# Altium footprint library Generic.PcbLib: 30 footprints (part 1 of 2)
Each footprint in its own frame and in the unit in brackets; x right, y up, seen from the top. Pads: shape width x height; smd on the part's side, far side on the other; paste and mask are expansions set on the pad; w line width, h text height; cw(c..) or ccw(c..) is an arc to the next point about the centre after c.
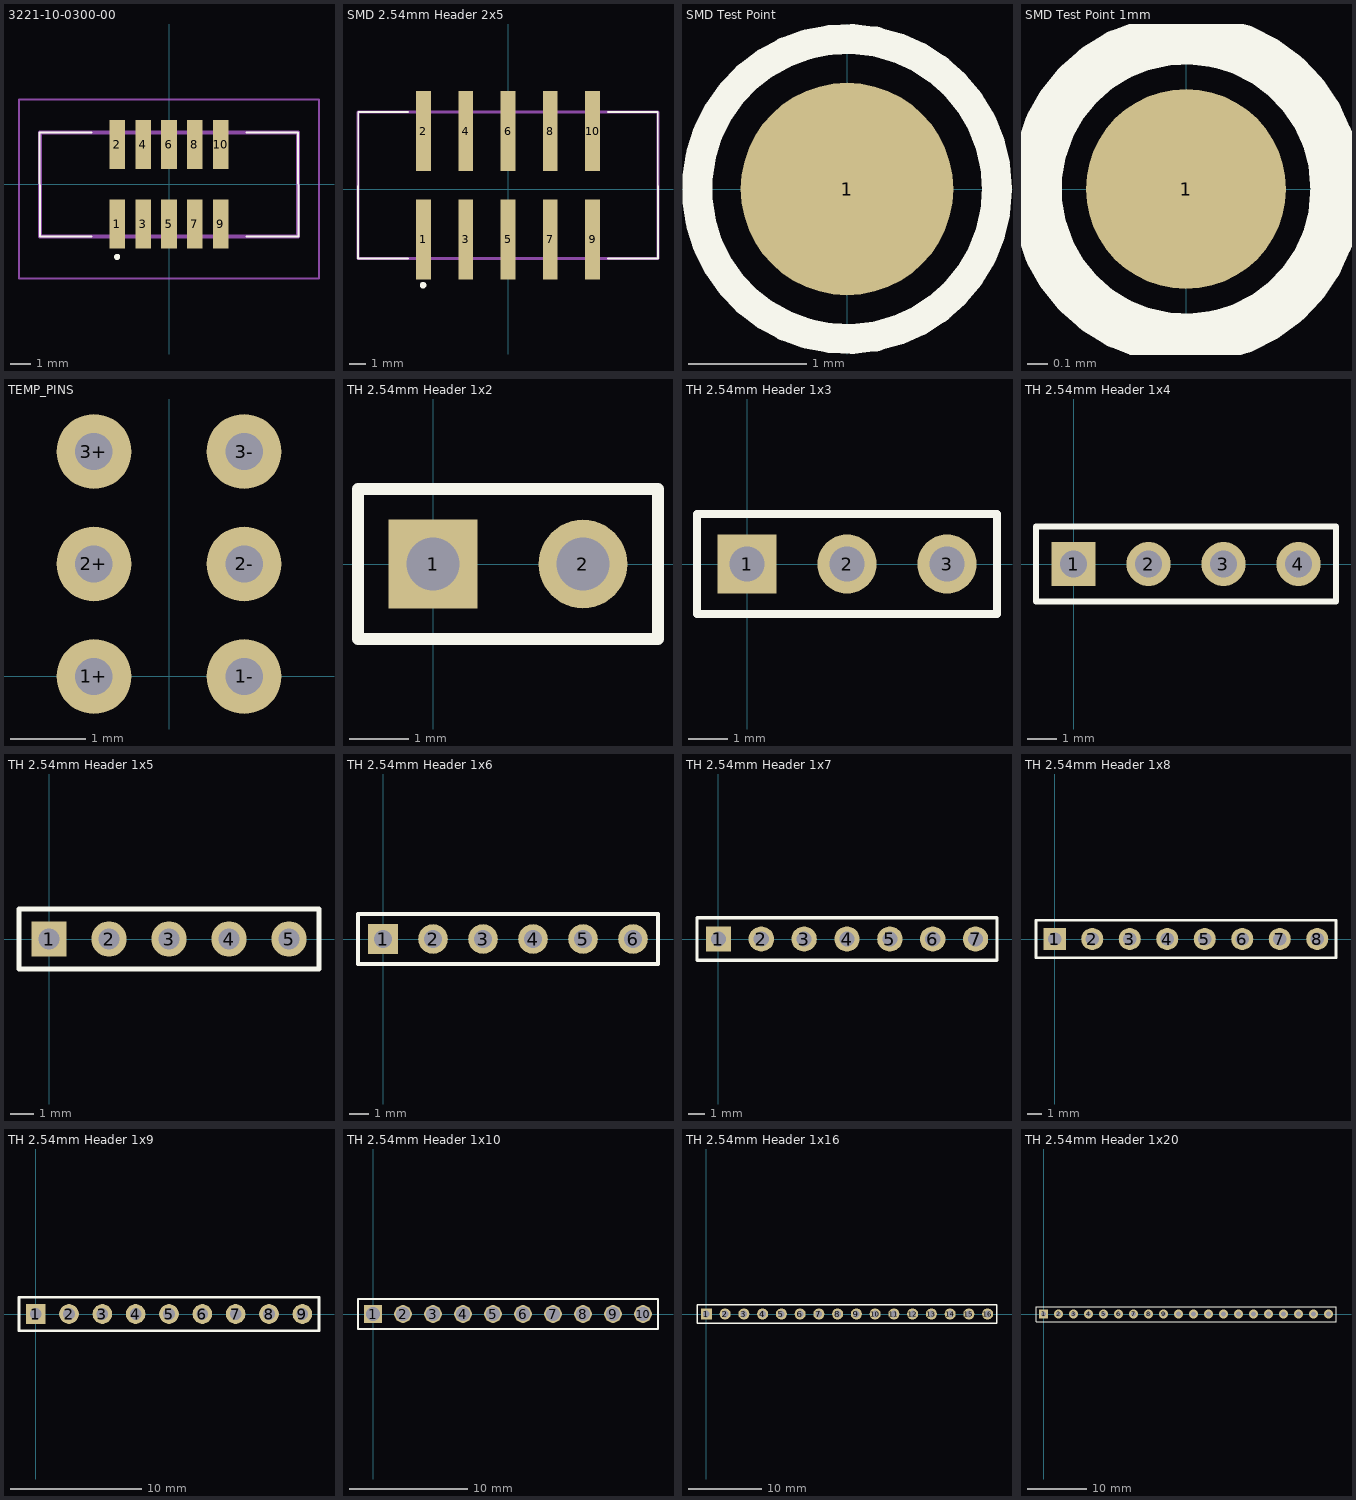
[diagram p0: the footprints below, top view; thin cyan lines are the x and y axes]

## 3221-10-0300-00 [mm]
pads (10):
  rect 0.76x2.4 smd: 1(-2.54,-1.95) 2(-2.54,1.95) 3(-1.27,-1.95) 4(-1.27,1.95) 5(0,-1.95) 6(0,1.95) 7(1.27,-1.95) 8(1.27,1.95) 9(2.54,-1.95) 10(2.54,1.95)
Top Overlay:
  lines w0.1: -3.81,-2.55 -6.325,-2.55 -6.35,2.55 -3.81,2.55 ; 3.81,-2.55 6.35,-2.55 6.325,2.55 3.81,2.55
  lines w0.2: -2.54,-3.6 cw(c-2.54,-3.55) -2.54,-3.5 cw(c-2.54,-3.55) -2.54,-3.6
Mechanical 13:
  lines w0.2: -6.325,-2.55 6.325,-2.55 6.325,2.55 -6.325,2.55 -6.325,-2.55
Mechanical 15:
  lines w0.1: -7.35,-4.6 7.35,-4.6 ; -7.35,-4.6 -7.35,4.15 ; -7.35,-4.6 7.35,-4.6 ; -7.35,-4.6 -7.35,4.15 ; -7.35,4.15 7.35,4.15 ; -7.35,4.15 7.35,4.15 ; 7.35,-4.6 7.35,4.15 ; 7.35,-4.6 7.35,4.15
3D body "3221-10-0300-00 3D.STP": height 5.25, standoff 0.05, extent -6.337,-2.8 6.363,2.8

## SMD 2.54mm Header 2x5 [mm]
pads (10):
  rect 0.89x4.8 smd: 1(-5.08,-3.025) 2(-5.08,3.475) 3(-2.54,-3.025) 4(-2.54,3.475) 5(0,-3.025) 6(0,3.475) 7(2.54,-3.025) 8(2.54,3.475) 9(5.08,-3.025) 10(5.08,3.475)
Top Overlay:
  lines w0.1: -6,-4.175 -9.01,-4.175 -9,4.625 -6,4.625 ; 6,-4.175 9.01,-4.175 9,4.625 6,4.625
  lines w0.2: -5.2,-5.775 ccw(c-5.1,-5.775) -5,-5.775 ccw(c-5.1,-5.775) -5.2,-5.775
Mechanical 15:
  lines w0.2: -9.01,-4.175 -9.01,4.625 9.01,4.625 9.01,-4.175 -9.01,-4.175
3D body "3020-10-0300-00.stp": height 10.1, standoff 0, extent -9.01,-5.336 9.01,5.786

## SMD Test Point [mm]
pads (1):
  round 1.8 smd: 1(0,0)
Top Overlay:
  circle w0.254: c0,0 r1.27

## SMD Test Point 1mm [mm]
pads (1):
  round 1 smd: 1(0,0)
Top Overlay:
  circle w0.254: c0,0 r0.75

## TEMP_PINS [mm]
pads (6):
  round 1 hole 0.5: 1+(-1,0) 1-(1,0) 2+(-1,1.5) 2-(1,1.5) 3+(-1,3) 3-(1,3)

## TH 2.54mm Header 1x2 [mm]
pads (2):
  rect 1.5x1.5 hole 0.9: 1(0,0)
  round 1.5 hole 0.9: 2(2.54,0)
Top Overlay:
  lines w0.2: -1.27,-1.27 -1.27,1.27 3.81,1.27 3.81,-1.27 -1.27,-1.27
3D body "Pin Header 1x2 TH Pitch 2.54mm.stp": height 9.5, standoff -3.2, extent -1.27,-1.27 3.81,1.27

## TH 2.54mm Header 1x3 [mm]
pads (3):
  rect 1.5x1.5 hole 0.9: 1(0,0)
  round 1.5 hole 0.9: 2(2.54,0) 3(5.08,0)
Top Overlay:
  lines w0.2: -1.27,-1.27 -1.27,1.27 6.35,1.27 6.35,-1.27 -1.27,-1.27
3D body "Pin Header 1x3 TH Pitch 2.54mm.stp": height 9.5, standoff -3.2, extent -1.27,-1.27 6.35,1.27

## TH 2.54mm Header 1x4 [mm]
pads (4):
  rect 1.5x1.5 hole 0.9: 1(0,0)
  round 1.5 hole 0.9: 2(2.54,0) 3(5.08,0) 4(7.62,0)
Top Overlay:
  lines w0.2: -1.27,-1.27 8.89,-1.27 8.89,1.27 -1.27,1.27 -1.27,-1.27
3D body "Pin Header 1x4 TH Pitch 2.54mm.stp": height 9.5, standoff -3.2, extent -1.27,-1.27 8.89,1.27

## TH 2.54mm Header 1x5 [mm]
pads (5):
  rect 1.5x1.5 hole 0.9: 1(0,0)
  round 1.5 hole 0.9: 2(2.54,0) 3(5.08,0) 4(7.62,0) 5(10.16,0)
Top Overlay:
  lines w0.2: -1.27,-1.27 -1.27,1.27 11.43,1.27 11.43,-1.27 -1.27,-1.27
3D body "Pin Header 1x5 TH Pitch 2.54mm.stp": height 9.5, standoff -3.2, extent -1.27,-1.27 11.43,1.27

## TH 2.54mm Header 1x6 [mm]
pads (6):
  rect 1.5x1.5 hole 0.9: 1(0,0)
  round 1.5 hole 0.9: 2(2.54,0) 3(5.08,0) 4(7.62,0) 5(10.16,0) 6(12.7,0)
Top Overlay:
  lines w0.2: -1.27,-1.27 13.97,-1.27 13.97,1.27 -1.27,1.27 -1.27,-1.27
3D body "Pin Header 1x6 TH Pitch 2.54mm.stp": height 9.5, standoff -3.2, extent -1.27,-1.27 13.97,1.27

## TH 2.54mm Header 1x7 [mm]
pads (7):
  rect 1.5x1.5 hole 0.9: 1(0,0)
  round 1.5 hole 0.9: 2(2.54,0) 3(5.08,0) 4(7.62,0) 5(10.16,0) 6(12.7,0) 7(15.24,0)
Top Overlay:
  lines w0.2: -1.27,-1.27 -1.27,1.27 16.51,1.27 16.51,-1.27 -1.27,-1.27
3D body "Pin Header 1x7 TH Pitch 2.54mm.stp": height 9.5, standoff -3.2, extent -1.27,-1.27 16.51,1.27

## TH 2.54mm Header 1x8 [mm]
pads (8):
  rect 1.5x1.5 hole 0.9: 1(0,0)
  round 1.5 hole 0.9: 2(2.54,0) 3(5.08,0) 4(7.62,0) 5(10.16,0) 6(12.7,0) 7(15.24,0) 8(17.78,0)
Top Overlay:
  lines w0.2: -1.27,-1.27 19.05,-1.27 19.05,1.27 -1.27,1.27 -1.27,-1.27
3D body "Pin Header 1x8 TH Pitch 2.54mm.stp": height 9.5, standoff -3.2, extent -1.27,-1.27 19.05,1.27

## TH 2.54mm Header 1x9 [mm]
pads (9):
  rect 1.5x1.5 hole 0.9: 1(0,0)
  round 1.5 hole 0.9: 2(2.54,0) 3(5.08,0) 4(7.62,0) 5(10.16,0) 6(12.7,0) 7(15.24,0) 8(17.78,0) 9(20.32,0)
Top Overlay:
  lines w0.2: -1.27,-1.27 21.59,-1.27 21.59,1.27 -1.27,1.27 -1.27,-1.27
3D body "Pin Header 1x9 TH Pitch 2.54mm.stp": height 9.5, standoff -3.2, extent -1.27,-1.27 21.59,1.27

## TH 2.54mm Header 1x10 [mm]
pads (10):
  rect 1.5x1.5 hole 1.2: 1(0,0)
  round 1.5 hole 1.2: 2(2.54,0) 3(5.08,0) 4(7.62,0) 5(10.16,0) 6(12.7,0) 7(15.24,0) 8(17.78,0) 9(20.32,0) 10(22.86,0)
Top Overlay:
  lines w0.2: -1.27,-1.27 -1.27,1.27 0.635,1.27 24.13,1.27 24.13,-1.27 -1.27,-1.27
3D body "Pin Header 1x10 TH Pitch 2.54mm.stp": height 9.5, standoff -3.2, extent -1.27,-1.27 24.13,1.27

## TH 2.54mm Header 1x16 [mm]
pads (16):
  rect 1.5x1.5 hole 0.9: 1(0,0)
  round 1.5 hole 0.9: 2(2.54,0) 3(5.08,0) 4(7.62,0) 5(10.16,0) 6(12.7,0) 7(15.24,0) 8(17.78,0) 9(20.32,0) 10(22.86,0) 11(25.4,0) 12(27.94,0) 13(30.48,0) 14(33.02,0) 15(35.56,0) 16(38.1,0)
Top Overlay:
  lines w0.2: -1.27,-1.27 39.37,-1.27 39.37,1.27 0.635,1.27 -1.27,1.27 -1.27,-1.27
3D body "Pin Header 1x16 TH Pitch 2.54mm.stp": height 9.5, standoff -3.2, extent -1.27,-1.27 39.37,1.27

## TH 2.54mm Header 1x20 [mm]
pads (20):
  rect 1.5x1.5 hole 0.9: 1(0,0)
  round 1.5 hole 0.9: 2(2.54,0) 3(5.08,0) 4(7.62,0) 5(10.16,0) 6(12.7,0) 7(15.24,0) 8(17.78,0) 9(20.32,0) 10(22.86,0) 11(25.4,0) 12(27.94,0) 13(30.48,0) 14(33.02,0) 15(35.56,0) 16(38.1,0) 17(40.64,0) 18(43.18,0) 19(45.72,0) 20(48.26,0)
Top Overlay:
  lines w0.2: -1.27,-1.27 -1.27,1.27 0.635,1.27 49.53,1.27 49.53,-1.27 -1.27,-1.27
3D body "Pin Header 1x4 TH Pitch 2.54mm.stp": height 9.5, standoff -3.2, extent -1.27,-1.27 8.89,1.27
3D body "Pin Header 1x16 TH Pitch 2.54mm.stp": height 9.5, standoff -3.2, extent 8.89,-1.27 49.53,1.27